# EAGLE library part MOMENTARY-SWITCH-PB06-LED (library 00_marph_Honyone)
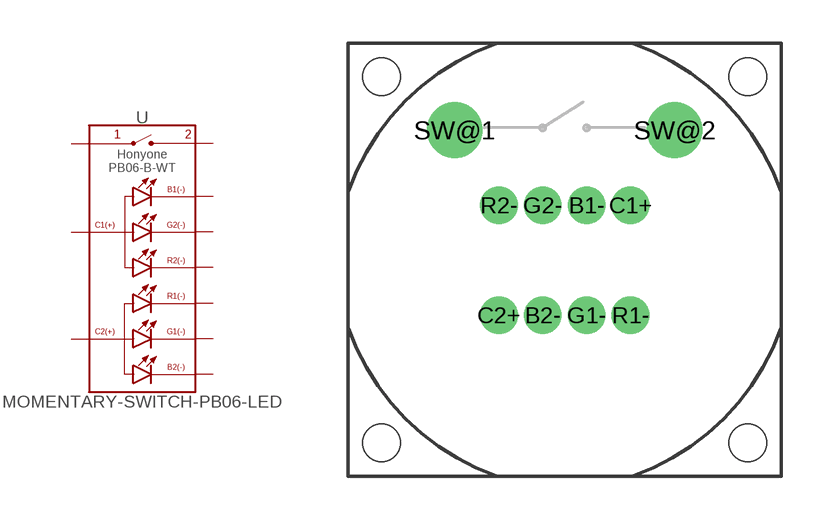
[diagram p1: symbol with the pads of TACTILE_SWITCH_LED_PB06_15MM; footprint TACTILE_SWITCH_LED_PB06_15MM]

Designator prefix -

## MOMENTARY-SWITCH-PB06-LEDRGB  [TACTILE_SWITCH_LED_PB06_15MM]
B1-  BLUE1-  pas
B2-  BLUE2-  pas
C1+  C1+  pas
C2+  C2+  pas
G1-  GREEN1-  pas
G2-  GREEN2-  pas
R1-  RED1-  pas
R2-  RED2-  pas
SW@1  SW
SW@2  SW

## Footprint TACTILE_SWITCH_LED_PB06_15MM (pad centres in mm)
Momentary Switch (Pushbutton) - SPST - w/ LED - PTH Normally-open (NO) SPST momentary switches (buttons, pushbuttons), with a built-in LED. Dimensional Drawing <https://www.sparkfun.com/datasheets/Components/General/TSD1265.png>
drill 0.8 pad 1.27: B1- 0.76,1.89; B2- -0.76,-1.92; C1+ 2.28,1.89; C2+ -2.28,-1.92; G1- 0.76,-1.92; G2- -0.76,1.89; R1- 2.28,-1.92; R2- -2.28,1.89
drill 1 pad 1.93: SW@1 -3.81,4.49; SW@2 3.81,4.49
hole 1.3 at -6.35,6.35
hole 1.3 at 6.35,6.35
hole 1.3 at -6.35,-6.35
hole 1.3 at 6.35,-6.35